# Altium schematic symbol library Digital-to-Analog-Converters.SchLib: 1 symbol
Pins are listed as number, name and electrical type; pins without a type are passive.

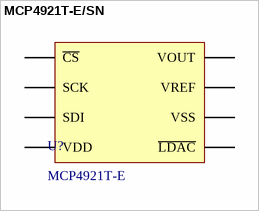
[diagram p0: symbol MCP4921T-E/SN]

## MCP4921T-E/SN
designator U?, comment MCP4921T-E
IC DAC 12BIT V-OUT 8SOIC; Manufacturer: Microchip; Manufacturer Part Number: MCP4921T-E/SN; Package Body Material: Plastic; Input Format: Serial; Analog Output Voltage-Max: 5.5V; Analog Output Voltage-Min: 0V; Converter Type: D/A CONVERTER; Linearity Error-Max (EL): 0.29%; Number of Bits: 12; Channels: 1; Package Equivalence Code: SOP8,.25; Power Supplies: 3/5V; Settling Time-Nom (tstl): 4.5us; Max Supply Current: 350uA; Nominal Supply Voltage: 5V; Time @ Peak Reflow Temperature-Max (s): 40s; Qualification Status: Not Qualified; Supplier: Digikey; Supplier Part Number: MCP4921T-E/SNCT-ND; RoHS: Yes; Category: Digital to Analog Converters (DACs); Stock: 3689; Pricing: 1=2.62, 25=2.17, 100=1.97 (USD); Case/Package: SOP; Pins: 8; Package Shape: Rectangular; Terminal Finish: Tin; Min Operating Temperature: -40°C; Max Operating Temperature: 125°C; JESD-609 Code: e3; JESD-30 Code: R-PDSO-G8; Moisture Sensitivity Level: 3; Package Style: SMALL OUTLINEMeter; Peak Reflow Temperature (Cel): 260°C; Surface Mount: Yes; Terminal Form: Gull Wing; Terminal Position: DUAL; Length: 4.9mm; Width: 3.9mm; Height - Seated (Max): 1.75mm; Terminal Pitch: 1.27mm; Temperature Grade: AUTOMOTIVE; Reach SVHC Compliant: Yes; RoHS Compliant: Yes; ComponentLink1URL: https://datasheet.ciiva.com:443/pdfs/VipMasterIC/IC/MCHP/MCHPS03135/MCHPS03135-1.pdf?src-supplier=IHS+Markit; ComponentLink1Description: https://datasheet.ciiva.com:443/pdfs/VipMasterIC/IC/MCHP/MCHPS03135/MCHPS03135-1.pdf?src-supplier=IHS+Markit; ComponentLink2URL: https://datasheet.ciiva.com/1370/22248a-1370106.pdf?src-supplier=Digikey; ComponentLink2Description: https://datasheet.ciiva.com/1370/22248a-1370106.pdf?src-supplier=Digikey; ComponentLink3URL: https://datasheet.ciiva.com/6671/22248a-6671406.pdf?src-supplier=Digikey; ComponentLink3Description: https://datasheet.ciiva.com/6671/22248a-6671406.pdf?src-supplier=Digikey; ComponentLink4URL: https://datasheet.ciiva.com/6671/22248a-6671407.pdf?src-supplier=Digikey; ComponentLink4Description: https://datasheet.ciiva.com/6671/22248a-6671407.pdf?src-supplier=Digikey; ComponentLink5URL: https://datasheet.ciiva.com/8189/22248a-8189675.pdf?src-supplier=Avnet; ComponentLink5Description: https://datasheet.ciiva.com/8189/22248a-8189675.pdf?src-supplier=Avnet
footprint SOIC-8
pins: 1 VDD, 2 ~{CS}, 3 SCK, 4 SDI, 5 ~{LDAC}, 6 VREF, 7 VSS, 8 VOUT